# EAGLE library part MCP23S08 (library LM555-SHAYAN-NOORANI)
IO Expander 8 Channel Datasheet <https://ww1.microchip.com/downloads/en/DeviceDoc/MCP23008-MCP23S08-Data-Sheet-20001919F.pdf>
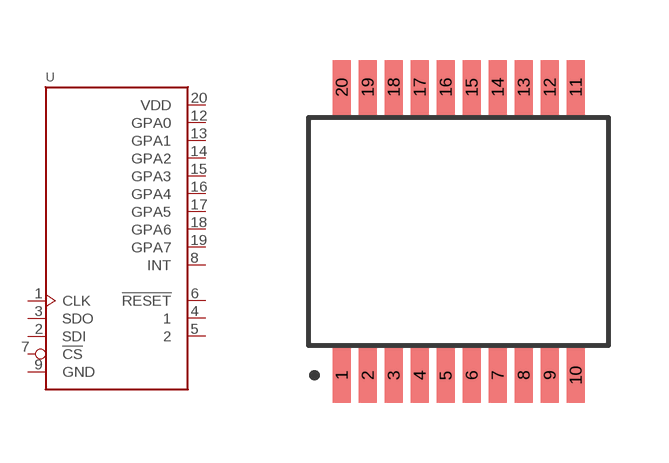
[diagram p31: symbol with the pads of SSOP-20; footprint SSOP-20]

Designator prefix U

## MCP23S08 (DKPN: MCP23S08-E/SS-ND; MANUFACTURER: Microchip Technology; MOPN: 579-MCP23S08-E/SS; MPN: MCP23S08-E/SS)  [SSOP-20]
1  CLK  in
2  SDI  in
3  SDO  out
4  1  in
5  2  in
6  !RESET  in
7  !CS  in
8  INT  out
9  GND  pwr
12  GPA0
13  GPA1
14  GPA2
15  GPA3
16  GPA4
17  GPA5
18  GPA6
19  GPA7
20  VDD  pwr

## Footprint SSOP-20 (pad centres in mm)
SSOP 20 Datasheet <https://www.analog.com/media/en/package-pcb-resources/package/pkg_pdf/ltc-legacy-ssop/SSOP_20_05-08-1640.pdf>
smd 0.45 x 1.37: 1 -2.925,-3.6; 2 -2.275,-3.6; 3 -1.625,-3.6; 4 -0.975,-3.6; 5 -0.325,-3.6; 6 0.325,-3.6; 7 0.975,-3.6; 8 1.625,-3.6; 9 2.275,-3.6; 10 2.925,-3.6; 11 2.925,3.6; 12 2.275,3.6; 13 1.625,3.6; 14 0.975,3.6; 15 0.325,3.6; 16 -0.325,3.6; 17 -0.975,3.6; 18 -1.625,3.6; 19 -2.275,3.6; 20 -2.925,3.6